# EAGLE library part TDA8920B (library Audio-Power-amlifier V.2.0)
The TDA8920B is a high efficiency class-D audio power amplifier with very low dissipation. The typical output power is 2 ´ 100 W. The device is available in the HSOP24 power package and in the DBS23P through-hole power package. The amplifier operates over a wide supply voltage range from ±12.5 V to ±30 V and consumes a very low quiescent current.
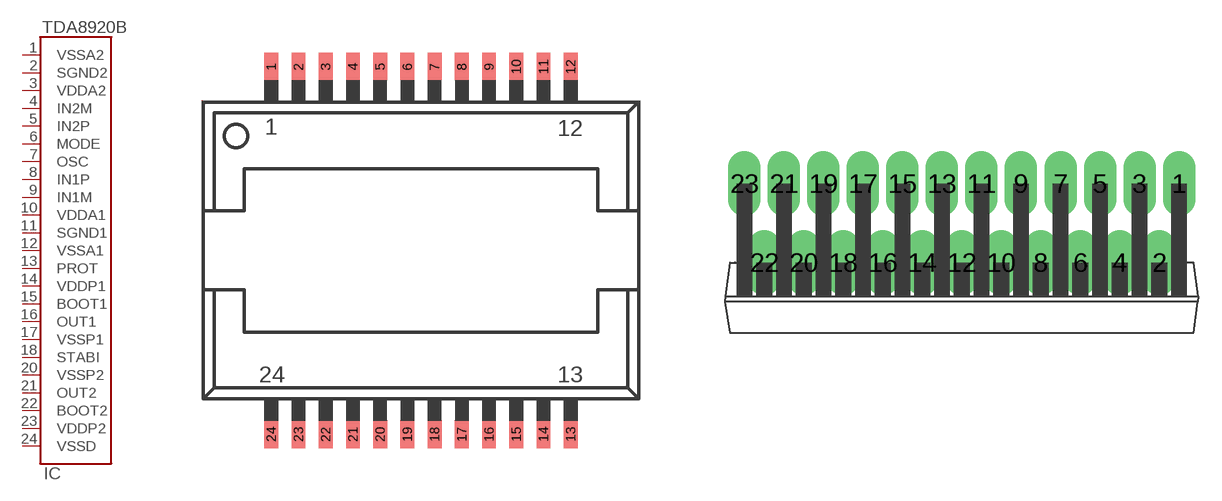
[diagram p172: symbol with the pads of SOT566-3; footprints SOT566-3, SOT411-1]

Designator prefix IC

## TDA8920BTDA8920BTH  [SOT566-3]
1  VSSA2  pwr
2  SGND2  pwr
3  VDDA2  pwr
4  IN2M  in
5  IN2P  in
6  MODE  in
7  OSC  in
8  IN1P  in
9  IN1M  in
10  VDDA1  pwr
11  SGND1  pwr
12  VSSA1  pwr
13  PROT
14  VDDP1  pwr
15  BOOT1
16  OUT1  out
17  VSSP1  pwr
18  STABI  pwr
20  VSSP2  pwr
21  OUT2  out
22  BOOT2
23  VDDP2  pwr
24  VSSD  pwr

## TDA8920BTDA8920BJ  [SOT411-1]
1  MODE  in
2  IN2P  in
3  IN2M  in
4  VDDA2  pwr
5  SGND2  pwr
6  VSSA2  pwr
7  VSSD  pwr
8  VDDP2  pwr
9  BOOT2
10  OUT2  out
11  VSSP2  pwr
12  STABI  pwr
13  VSSP1  pwr
14  OUT1  out
15  BOOT1
16  VDDP1  pwr
17  PROT
18  VSSA1  pwr
19  SGND1  pwr
20  VDDA1  pwr
21  IN1M  in
22  IN1P  in
23  OSC  in

## Footprint SOT566-3 (pad centres in mm)
smd 0.508 x 1.016: 1 -5.5,6.75; 2 -4.5,6.75; 3 -3.5,6.75; 4 -2.5,6.75; 5 -1.5,6.75; 6 -0.5,6.75; 7 0.5,6.75; 8 1.5,6.75; 9 2.5,6.75; 10 3.5,6.75; 11 4.5,6.75; 12 5.5,6.75; 13 5.5,-6.75; 14 4.5,-6.75; 15 3.5,-6.75; 16 2.5,-6.75; 17 1.5,-6.75; 18 0.5,-6.75; 19 -0.5,-6.75; 20 -1.5,-6.75; 21 -2.5,-6.75; 22 -3.5,-6.75; 23 -4.5,-6.75; 24 -5.5,-6.75

## Footprint SOT411-1 (pad centres in mm)
drill 1.4 long: 1 13.97,5.08; 2 12.7,0; 3 11.43,5.08; 4 10.16,0; 5 8.89,5.08; 6 7.62,0; 7 6.35,5.08; 8 5.08,0; 9 3.81,5.08; 10 2.54,0; 11 1.27,5.08; 12 0,0; 13 -1.27,5.08; 14 -2.54,0; 15 -3.81,5.08; 16 -5.08,0; 17 -6.35,5.08; 18 -7.62,0; 19 -8.89,5.08; 20 -10.16,0; 21 -11.43,5.08; 22 -12.7,0; 23 -13.97,5.08